# Altium schematic symbol library SCH - CONNECTORS - JST SM10B-SURS-TF.Schlib: 1 symbol
Pins are listed as number, name and electrical type; pins without a type are passive.

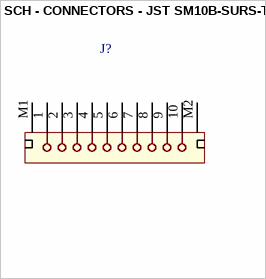
[diagram p0: symbol SCH - CONNECTORS - JST SM10B-SURS-TF]

## SCH - CONNECTORS - JST SM10B-SURS-TF
designator J?
footprint SM10B-SURS-TF
pins: 1, 2, 3, 4, 5, 6, 7, 8, 9, 10, M1, M2